# Altium footprint library PcbLib1.PcbLib: 10 footprints
Each footprint in its own frame and in the unit in brackets; x right, y up, seen from the top. Pads: shape width x height; smd on the part's side, far side on the other; paste and mask are expansions set on the pad; w line width, h text height; cw(c..) or ccw(c..) is an arc to the next point about the centre after c.
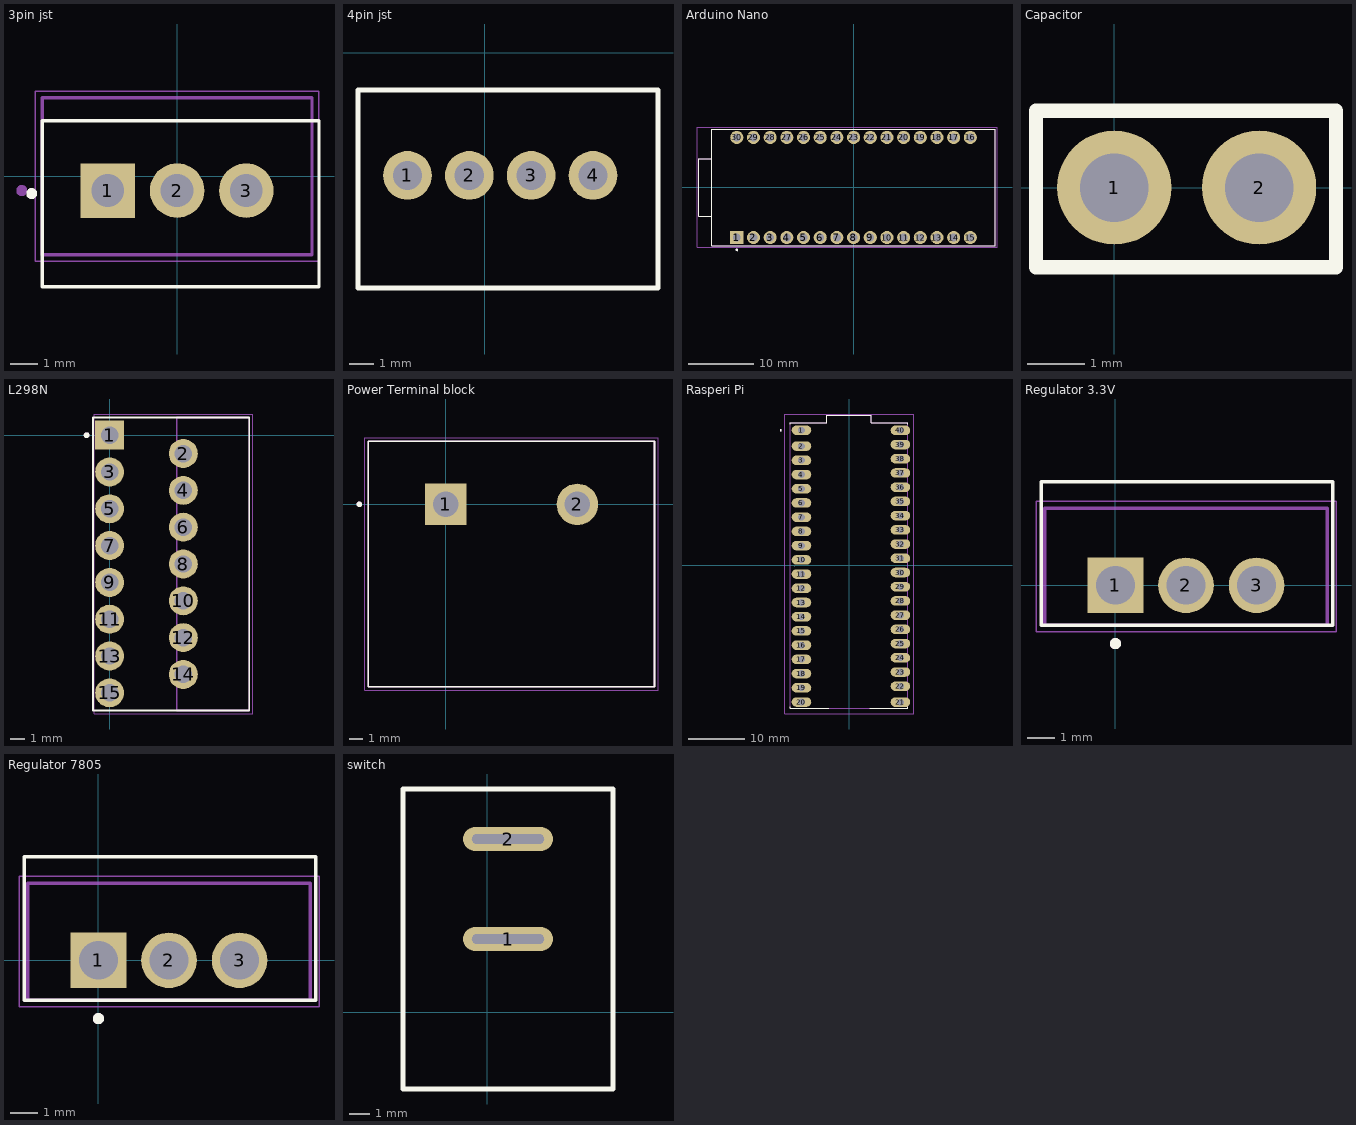
[diagram p0: the footprints below, top view; thin cyan lines are the x and y axes]

## 3pin jst [mm]
height 7
pads (3):
  rect 2x2 / inner round 1.508 / far side rect 1.508x1.508 hole 1.2: 1(-2.54,-0.525)
  round 2 hole 1.2: 2(0,-0.525) 3(2.54,-0.525)
Top Overlay:
  circle w0.2: c-5.334,-0.635 r0.1
  lines w0.127: -4.95,-4.064 -4.95,2.032 5.207,2.032 5.207,-4.064 -4.95,-4.064
Mechanical 13:
  circle w0.2: c-5.7,-0.525 r0.1
  lines w0.127: -4.95,-2.875 -4.95,2.875 4.95,2.875 4.95,-2.875 -4.95,-2.875
Mechanical 15:
  lines w0.05: -5.2,-3.125 5.2,-3.125 5.2,3.125 -5.2,3.125 -5.2,-3.125
3D body "B3B-XH-A-LF--SN---3DModel-STEP-418109.STEP": height 7, standoff -3.4, extent -4.823,-3.891 5.077,1.859

## 4pin jst [mm]
pads (4):
  round 2 hole 1.2: 1(-3.175,-5.029) 2(-0.635,-5.029) 3(1.905,-5.029) 4(4.445,-5.029)
Top Overlay:
  lines w0.203: -5.207,-9.652 -5.207,-1.524 7.112,-1.524 7.112,-9.652 -5.207,-9.652
3D body "c-2-644861-4-n-3d.stp": height 10.43, standoff -3.54, extent -5.258,-9.525 7.036,-1.575

## Arduino Nano [mm]
pads (30):
  rect 2x2 hole 1.2: 1(-17.78,-7.62)
  round 2 hole 1.2: 2(-15.24,-7.62) 3(-12.7,-7.62) 4(-10.16,-7.62) 5(-7.62,-7.62) 6(-5.08,-7.62) 7(-2.54,-7.62) 8(0,-7.62) 9(2.54,-7.62) 10(5.08,-7.62) 11(7.62,-7.62) 12(10.16,-7.62) 13(12.7,-7.62) 14(15.24,-7.62) 15(17.78,-7.62) 16(17.78,7.62) 17(15.24,7.62) 18(12.7,7.62) 19(10.16,7.62) 20(7.62,7.62) 21(5.08,7.62) 22(2.54,7.62) 23(0,7.62) 24(-2.54,7.62) 25(-5.08,7.62) 26(-7.62,7.62) 27(-10.16,7.62) 28(-12.7,7.62) 29(-15.24,7.62) 30(-17.78,7.62)
Top Overlay:
  circle w0.2: c-17.78,-9.5 r0.1
  lines w0.127: -21.59,-4.4 -23.59,-4.4 -23.59,4.4 -21.59,4.4 ; -21.59,-4.4 -21.59,-8.885 21.59,-8.885 21.59,8.885 -21.59,8.885 -21.59,4.4 ; -21.59,-4.4 -21.59,4.4
Mechanical 13:
  circle w0.2: c-17.78,-9.5 r0.1
  lines w0.127: -21.59,-4.4 -23.59,-4.4 -23.59,4.4 -21.59,4.4 ; -21.59,-8.885 -21.59,8.885 21.59,8.885 21.59,-8.885 -21.59,-8.885
Mechanical 15:
  lines w0.05: -23.84,-9.135 -23.84,-4.65 -23.84,9.135 21.84,9.135 21.84,-9.135 -23.84,-9.135
3D body "ABX00053--3DModel-STEP-56544.STEP": height 8.51, standoff -5.49, extent -23.114,-8.885 21.466,8.885

## Capacitor [mm]
pads (2):
  round 2 hole 1.2: 1(0,0) 2(2.54,0)
Top Overlay:
  lines w0.254: -1.372,-1.397 3.886,-1.397 3.886,1.346 -1.372,1.346 -1.372,-1.397

## L298N [mm]
pads (15):
  rect 2x2 hole 1.2: 1(0,0)
  round 2 hole 1.2: 2(5.08,-1.27) 3(0,-2.54) 4(5.08,-3.81) 5(0,-5.08) 6(5.08,-6.35) 7(0,-7.62) 8(5.08,-8.89) 9(0,-10.16) 10(5.08,-11.43) 11(0,-12.7) 12(5.08,-13.97) 13(0,-15.24) 14(5.08,-16.51) 15(0,-17.78)
Top Overlay:
  circle w0.2: c-1.59,0 r0.1
  lines w0.127: -1.146,-18.99 -1.146,1.21 ; -1.143,-18.99 9.63,-18.99 9.63,1.21 -1.143,1.21
Mechanical 13:
  circle w0.2: c-1.59,0 r0.1
  lines w0.127: 4.63,-18.99 9.63,-18.99 9.63,1.21 4.63,1.21 4.63,-18.99
Mechanical 15:
  lines w0.05: -1.06,-19.24 9.88,-19.24 9.88,1.46 -1.06,1.46 -1.06,-19.24
3D body "L298N--3DModel-STEP-56544.STEP": height 21.15, standoff -3.82, extent -0.492,-19.092 9.398,1.108

## Power Terminal block [mm]
pads (2):
  rect 3x3 hole 1.854: 1(0,0)
  round 3 hole 1.854: 2(9.53,0)
Top Overlay:
  circle w0.2: c-6.238,0 r0.1
  lines w0.127: -5.588,-13.208 -5.588,4.572 15.118,4.572 15.118,-13.208 -5.588,-13.208
Mechanical 13:
  circle w0.2: c-6.238,0 r0.1
  lines w0.127: -5.588,-13.208 -5.588,4.572 15.118,4.572 15.118,-13.208 ; -5.588,-13.208 15.118,-13.208 ; -5.588,-13.208 15.118,-13.208
Mechanical 15:
  lines w0.05: -5.838,-13.458 -5.838,4.822 15.368,4.822 15.368,-13.458 -5.838,-13.458
3D body "4-1437652-6.stp": height 15.86, standoff -5.09, extent -5.474,-13.081 15.126,4.699

## Rasperi Pi [mm]
pads (40):
  oval 3.5x1.7 hole 1.2: 1(-8.509,24.155) 2(-8.509,21.311) 3(-8.509,18.771) 4(-8.509,16.231) 5(-8.509,13.691) 6(-8.509,11.151) 7(-8.509,8.611) 8(-8.509,6.071) 9(-8.509,3.531) 10(-8.509,0.991) 11(-8.509,-1.549) 12(-8.509,-4.089) 13(-8.509,-6.629) 14(-8.509,-9.169) 15(-8.509,-11.709) 16(-8.509,-14.249) 17(-8.509,-16.789) 18(-8.509,-19.329) 19(-8.509,-21.869) 20(-8.509,-24.409) 21(9.169,-24.435) 22(9.169,-21.59) 23(9.169,-19.05) 24(9.169,-16.51) 25(9.169,-13.97) 26(9.169,-11.43) 27(9.169,-8.89) 28(9.169,-6.35) 29(9.169,-3.81) 30(9.169,-1.27) 31(9.169,1.27) 32(9.169,3.81) 33(9.169,6.35) 34(9.169,8.89) 35(9.169,11.43) 36(9.169,13.97) 37(9.169,16.51) 38(9.169,19.05) 39(9.169,21.59) 40(9.169,24.13)
Top Overlay:
  circle w0.2: c-12.19,24.13 r0.1
  lines w0.127: -10.5,-25.25 -10.5,-25.5 -3.66,-25.5 ; -10.5,25.25 -10.5,25.5 -4,25.5 -4,26.8 4,26.8 4,25.5 10.5,25.5 10.5,25.25 ; 3.66,-25.5 10.5,-25.5 10.5,-25.25
  lines w0.254: -9.69,-0.165 -9.677,-0.178
Mechanical 13:
  circle w0.2: c-12.19,24.13 r0.1
  lines w0.127: -10.5,-25.5 10.5,-25.5 10.5,25.5 4,25.5 4,26.8 -4,26.8 -4,25.5 -10.5,25.5 -10.5,-25.5
Mechanical 15:
  lines w0.05: -11.54,-26.55 11.54,-26.55 11.54,27.05 -11.54,27.05 -11.54,-26.55
3D body "SC0915--3DModel-STEP-56544.STEP": height 3.38, standoff -0.35, extent -10.17,-25.776 10.83,26.524

## Regulator 3.3V [mm]
pads (3):
  rect 2.01x2.01 hole 1.4: 1(0,0)
  round 2 hole 1.4: 2(2.54,0) 3(5.08,0)
Top Overlay:
  circle w0.2: c0,-2.1 r0.1
  lines w0.127: -2.667,-1.43 -2.667,3.734 7.823,3.734 7.823,-1.43 -2.667,-1.43
Mechanical 13:
  circle w0.2: c0,-2.1 r0.1
  lines w0.127: -2.54,-1.43 -2.54,2.77 7.62,2.77 7.62,-1.43 -2.54,-1.43
Mechanical 15:
  lines w0.05: -2.86,-1.677 -2.86,3.024 7.94,3.024 7.94,-1.677 -2.86,-1.677
3D body "MC78M08CT.STEP": height 19.85, standoff -8.95, extent -2.434,-1.016 7.666,3.484

## Regulator 7805 [mm]
pads (3):
  rect 2.01x2.01 hole 1.4: 1(0,0)
  round 2 hole 1.4: 2(2.54,0) 3(5.08,0)
Top Overlay:
  circle w0.2: c0,-2.1 r0.1
  lines w0.127: -2.667,-1.43 7.823,-1.43 7.823,3.734 -2.667,3.734 -2.667,-1.43
Mechanical 13:
  circle w0.2: c0,-2.1 r0.1
  lines w0.127: -2.54,-1.43 7.62,-1.43 7.62,2.77 -2.54,2.77 -2.54,-1.43
Mechanical 15:
  lines w0.05: -2.86,-1.677 7.94,-1.677 7.94,3.024 -2.86,3.024 -2.86,-1.677
3D body "MC78M08CT.STEP": height 19.85, standoff -8.95, extent -2.434,-1.016 7.666,3.484

## switch [mm]
pads (2):
  oval 4.5x1.2 hole 0.5 slot 3.6 at 0 deg: 1(1.034,3.665) 2(1.034,8.665)
Top Overlay:
  lines w0.254: -4.216,-3.835 6.284,-3.835 6.284,11.165 -4.216,11.165 -4.216,-3.835